# Altium schematic symbol library STM32_Breakout.SchLib: 25 symbols
Pins are listed as number, name and electrical type; pins without a type are passive.

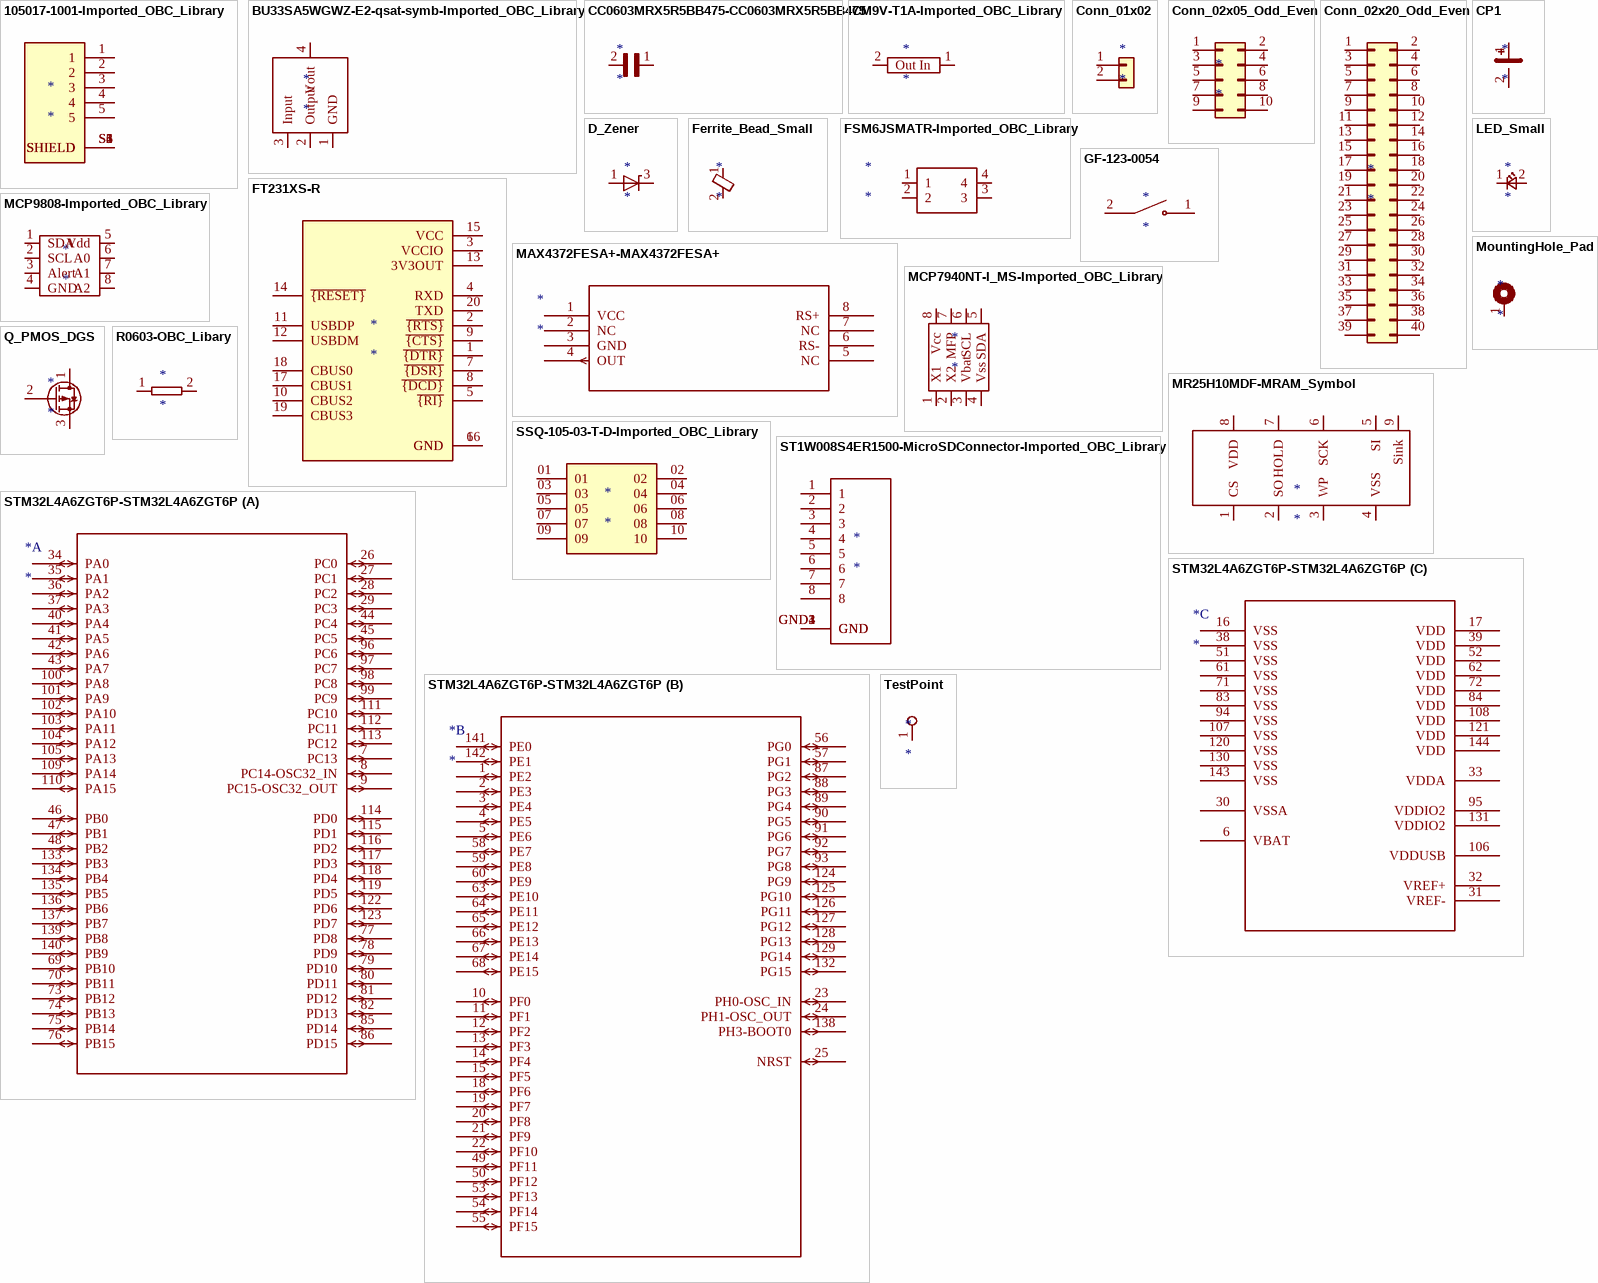
[diagram p0: symbols 105017-1001-Imported_OBC_Library to TestPoint]

## 105017-1001-Imported_OBC_Library
designator *
pins: 1, 2, 3, 4, 5, S1 SHIELD, S2 SHIELD, S3 SHIELD, S4 SHIELD, S5 SHIELD, S6 SHIELD

## BU33SA5WGWZ-E2-qsat-symb-Imported_OBC_Library
designator *
pins: 1 GND, 2 Output, 3 Input, 4 Vout

## CC0603MRX5R5BB475-CC0603MRX5R5BB475
designator *
pins: 1, 2

## CM9V-T1A-Imported_OBC_Library
designator *
pins: 1 In, 2 Out

## Conn_01x02
designator *
pins: 1 Pin_1, 2 Pin_2

## Conn_02x05_Odd_Even
designator *
pins: 1 Pin_1, 2 Pin_2, 3 Pin_3, 4 Pin_4, 5 Pin_5, 6 Pin_6, 7 Pin_7, 8 Pin_8, 9 Pin_9, 10 Pin_10

## Conn_02x20_Odd_Even
designator *
pins: 1 Pin_1, 2 Pin_2, 3 Pin_3, 4 Pin_4, 5 Pin_5, 6 Pin_6, 7 Pin_7, 8 Pin_8, 9 Pin_9, 10 Pin_10, 11 Pin_11, 12 Pin_12, 13 Pin_13, 14 Pin_14, 15 Pin_15, 16 Pin_16, 17 Pin_17, 18 Pin_18, 19 Pin_19, 20 Pin_20, 21 Pin_21, 22 Pin_22, 23 Pin_23, 24 Pin_24, 25 Pin_25, 26 Pin_26, 27 Pin_27, 28 Pin_28, 29 Pin_29, 30 Pin_30, 31 Pin_31, 32 Pin_32, 33 Pin_33, 34 Pin_34, 35 Pin_35, 36 Pin_36, 37 Pin_37, 38 Pin_38, 39 Pin_39, 40 Pin_40

## CP1
designator *
pins: 1, 2

## D_Zener
designator *
pins: 1 K, 3 A

## Ferrite_Bead_Small
designator *
pins: 1, 2

## FSM6JSMATR-Imported_OBC_Library
designator *
pins: 1, 2, 3, 4

## FT231XS-R
designator *
pins: 1 ~{{DTR}}, 2 ~{{RTS}}, 3 VCCIO, 4 RXD, 5 ~{{RI}}, 6 GND, 7 ~{{DSR}}, 8 ~{{DCD}}, 9 ~{{CTS}}, 10 CBUS2, 11 USBDP, 12 USBDM, 13 3V3OUT, 14 ~{{RESET}}, 15 VCC, 16 GND, 17 CBUS1, 18 CBUS0, 19 CBUS3, 20 TXD

## GF-123-0054
designator *
pins: 1, 2

## LED_Small
designator *
pins: 1 K, 2 A

## MAX4372FESA+-MAX4372FESA+
designator *
pins: 1 VCC, 2 NC, 3 GND, 4 OUT, 5 NC, 6 RS-, 7 NC, 8 RS+

## MCP7940NT-I_MS-Imported_OBC_Library
designator *
pins: 1 X1, 2 X2, 3 Vbat, 4 Vss, 5 SDA, 6 SCL, 7 MFP, 8 Vcc

## MCP9808-Imported_OBC_Library
designator *
pins: 1 SDA, 2 SCL, 3 Alert, 4 GND, 5 Vdd, 6 A0, 7 A1, 8 A2

## MountingHole_Pad
designator *
pins: 1

## MR25H10MDF-MRAM_Symbol
designator *
pins: 1 CS, 2 SO, 3 WP, 4 VSS, 5 SI, 6 SCK, 7 HOLD, 8 VDD, 9 Sink

## Q_PMOS_DGS
designator *
pins: 1 D, 2 G, 3 S

## R0603-OBC_Libary
designator *
pins: 1, 2

## SSQ-105-03-T-D-Imported_OBC_Library
designator *
pins: 01, 02, 03, 04, 05, 06, 07, 08, 09, 10

## ST1W008S4ER1500-MicroSDConnector-Imported_OBC_Library
designator *
pins: 1, 2, 3, 4, 5, 6, 7, 8, GND1 GND, GND2 GND, GND3 GND, GND4 GND

## STM32L4A6ZGT6P-STM32L4A6ZGT6P
designator *
part A pins: 7 PC13, 8 PC14-OSC32_IN, 9 PC15-OSC32_OUT, 26 PC0, 27 PC1, 28 PC2, 29 PC3, 34 PA0, 35 PA1, 36 PA2, 37 PA3, 40 PA4, 41 PA5, 42 PA6, 43 PA7, 44 PC4, 45 PC5, 46 PB0, 47 PB1, 48 PB2, 69 PB10, 70 PB11, 73 PB12, 74 PB13, 75 PB14, 76 PB15, 77 PD8, 78 PD9, 79 PD10, 80 PD11, 81 PD12, 82 PD13, 85 PD14, 86 PD15, 96 PC6, 97 PC7, 98 PC8, 99 PC9, 100 PA8, 101 PA9, 102 PA10, 103 PA11, 104 PA12, 105 PA13, 109 PA14, 110 PA15, 111 PC10, 112 PC11, 113 PC12, 114 PD0, 115 PD1, 116 PD2, 117 PD3, 118 PD4, 119 PD5, 122 PD6, 123 PD7, 133 PB3, 134 PB4, 135 PB5, 136 PB6, 137 PB7, 139 PB8, 140 PB9
part B pins: 1 PE2, 2 PE3, 3 PE4, 4 PE5, 5 PE6, 10 PF0, 11 PF1, 12 PF2, 13 PF3, 14 PF4, 15 PF5, 18 PF6, 19 PF7, 20 PF8, 21 PF9, 22 PF10, 23 PH0-OSC_IN, 24 PH1-OSC_OUT, 25 NRST, 49 PF11, 50 PF12, 53 PF13, 54 PF14, 55 PF15, 56 PG0, 57 PG1, 58 PE7, 59 PE8, 60 PE9, 63 PE10, 64 PE11, 65 PE12, 66 PE13, 67 PE14, 68 PE15, 87 PG2, 88 PG3, 89 PG4, 90 PG5, 91 PG6, 92 PG7, 93 PG8, 124 PG9, 125 PG10, 126 PG11, 127 PG12, 128 PG13, 129 PG14, 132 PG15, 138 PH3-BOOT0, 141 PE0, 142 PE1
part C pins: 6 VBAT, 16 VSS, 17 VDD, 30 VSSA, 31 VREF-, 32 VREF+, 33 VDDA, 38 VSS, 39 VDD, 51 VSS, 52 VDD, 61 VSS, 62 VDD, 71 VSS, 72 VDD, 83 VSS, 84 VDD, 94 VSS, 95 VDDIO2, 106 VDDUSB, 107 VSS, 108 VDD, 120 VSS, 121 VDD, 130 VSS, 131 VDDIO2, 143 VSS, 144 VDD

## TestPoint
designator *
pins: 1